# EAGLE library part 2HPOWERCLAW (library anderson)
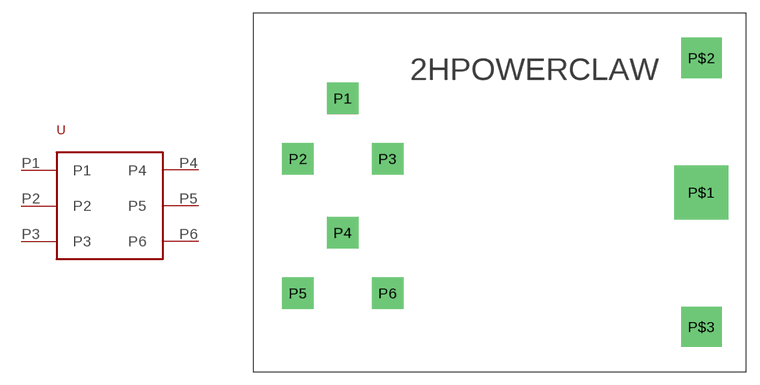
[diagram p0: symbol with the pads of 2HPOWERCLAW; footprint 2HPOWERCLAW]

Designator prefix -

## 2HPOWERCLAW  [2HPOWERCLAW]
P1  P1
P2  P2
P3  P3
P4  P4
P5  P5
P6  P6

## Footprint 2HPOWERCLAW (pad centres in mm)
drill 2.54 square: P1 -40.64,10.668; P2 -45.72,3.81; P3 -35.56,3.81; P4 -40.64,-4.572; P5 -45.72,-11.43; P6 -35.56,-11.43
drill 5.08 square: P$1 0,0
drill 3.556 square: P$2 0,15.24; P$3 0,-15.24